# EAGLE library part RESNET745_8 (library monome)
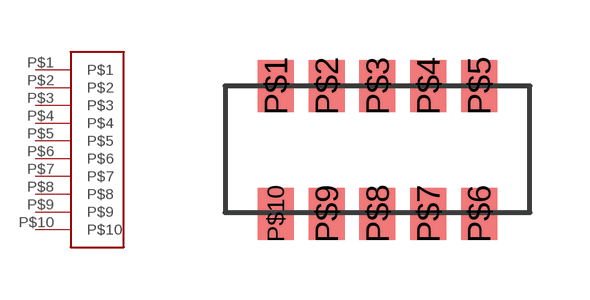
[diagram p16: symbol with the pads of RESNET_745_8; footprint RESNET_745_8]

Designator prefix -

## RESNET745_8  [RESNET_745_8]
P$1  P$1
P$2  P$2
P$3  P$3
P$4  P$4
P$5  P$5
P$6  P$6
P$7  P$7
P$8  P$8
P$9  P$9
P$10  P$10

## Footprint RESNET_745_8 (pad centres in mm)
smd 0.9 x 1.3: P$1 0,0; P$2 1.27,0; P$3 2.54,0; P$4 3.81,0; P$5 5.08,0; P$6 5.08,-3.2; P$7 3.81,-3.2; P$8 2.54,-3.2; P$9 1.27,-3.2; P$10 0,-3.2